# Altium footprint library PCB - LEADLESS - QFN - TI VQFN-16 RGT.PCBLIB: 1 footprints
Each footprint in its own frame and in the unit in brackets; x right, y up, seen from the top. Pads: shape width x height; smd on the part's side, far side on the other; paste and mask are expansions set on the pad; w line width, h text height; cw(c..) or ccw(c..) is an arc to the next point about the centre after c.
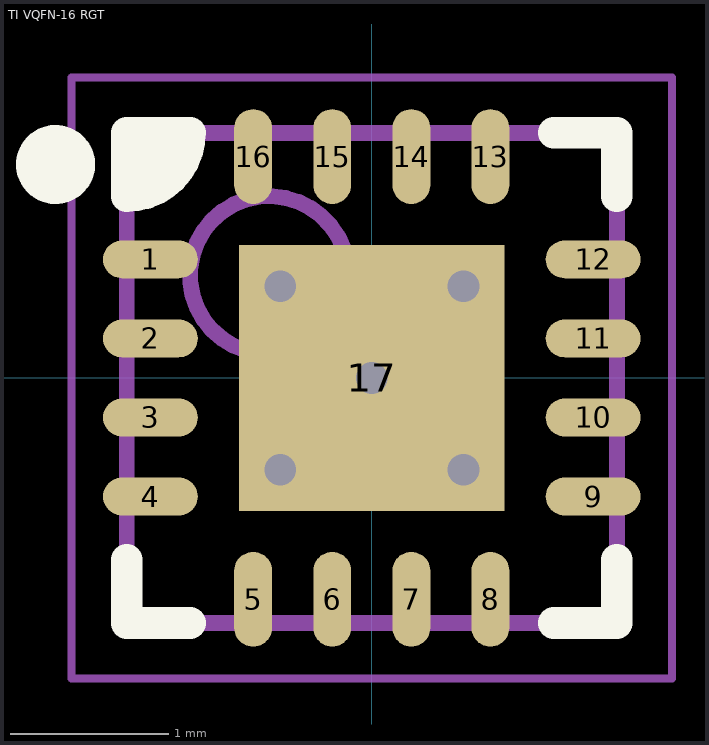
[diagram p0: the footprint, top view; thin cyan lines are the x and y axes]

## TI VQFN-16 RGT [mm] "QFN, 16-Leads, Body 3.1x3.1mm (max), Pitch 0.5mm, IPC Medium Density"
height 1
pads (17):
  oval 0.6x0.24 smd mask+0.07: 1(-1.4,0.75) 2(-1.4,0.25) 3(-1.4,-0.25) 4(-1.4,-0.75) 9(1.4,-0.75) 10(1.4,-0.25) 11(1.4,0.25) 12(1.4,0.75)
  oval 0.24x0.6 smd mask+0.07: 5(-0.75,-1.4) 6(-0.25,-1.4) 7(0.25,-1.4) 8(0.75,-1.4) 13(0.75,1.4) 14(0.25,1.4) 15(-0.25,1.4) 16(-0.75,1.4)
  rect 1.68x1.68 smd paste-0.065 mask+0.07: 17(0,0)
via 0.58,-0.58 diameter 0.4 hole 0.2
via -0.58,-0.58 diameter 0.4 hole 0.2
via -0.58,0.58 diameter 0.4 hole 0.2
via 0.58,0.58 diameter 0.4 hole 0.2
via 0,0 diameter 0.4 hole 0.2
Top Overlay:
  circle w0.25: c-2,1.35 r0.125
  region: -1.55,1.55 -1.075,1.55 -1.075,1.425 -1.4,1.1 -1.55,1.1
  lines w0.2: -1.55,-1.15 -1.55,-1.55 -1.15,-1.55 ; 1.15,-1.55 1.55,-1.55 1.55,-1.15 ; 1.15,1.55 1.55,1.55 1.55,1.15 ; -1.55,1.15 ccw(c-1.55,1.55) -1.15,1.55 -1.55,1.55 -1.55,1.15
Mechanical 13:
  circle w0.1: c-0.65,0.65 r0.5
  lines w0.1: -1.55,-1.55 -1.55,1.55 1.55,1.55 1.55,-1.55 -1.55,-1.55
Mechanical 15:
  lines w0.05: -1.9,-1.9 -1.9,1.9 1.9,1.9 1.9,-1.9 -1.9,-1.9
  lines w0.1: -0.5,0 0.5,0 ; 0,-0.5 0,0.5
3D body "QFN50P300X300X100_HS-17N.step": height 1, standoff 0, extent -1.6,-1.6 1.6,1.6